# EAGLE library part BMP180 (library 1AA_Stofer)
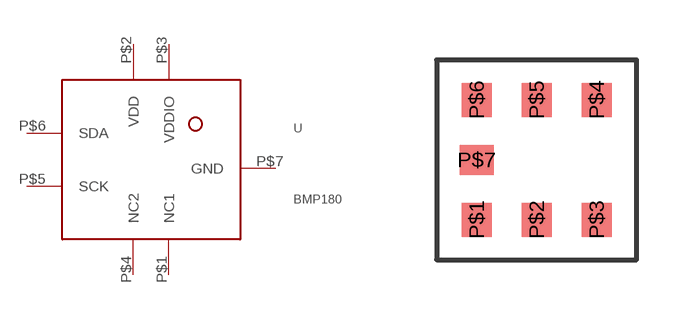
[diagram p35: symbol with the pads of LGA_7; footprint LGA_7]

Designator prefix -

## BMP180LDA_7  [LGA_7]
P$1  NC1  in
P$2  VDD  pwr
P$3  VDDIO  pwr
P$4  NC2  nc
P$5  SCK  in
P$6  SDA
P$7  GND  pwr

## Footprint LGA_7 (pad centres in mm)
smd 0.75 x 0.85: P$1 0,0; P$2 1.5,0; P$3 3,0; P$4 3,3; P$5 1.5,3; P$6 0,3
smd 0.85 x 0.75: P$7 0,1.5